# EAGLE library part MC33171DG (library on-semiconductor-01)
Operational Amplifiers
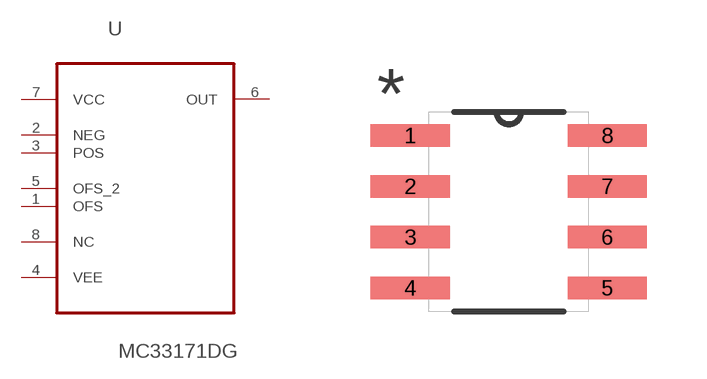
[diagram p354: symbol with the pads of SOIC127P600X175-8N; footprint SOIC127P600X175-8N]

Designator prefix U

## MC33171DG (MPN: MC33171DG; OC_FARNELL: 1104707; OC_NEWARK: 42K0590; PACKAGE: SO-8; SUPPLIER: ON SEMICONDUCTOR)  [SOIC127P600X175-8N]
1  OFS  pas
2  NEG  in
3  POS  in
4  VEE  pwr
5  OFS_2  pas
6  OUT  out
7  VCC  pwr
8  NC  nc

## Footprint SOIC127P600X175-8N (pad centres in mm)
smd 1.981 x 0.559: 1 -2.464,1.905; 2 -2.464,0.635; 3 -2.464,-0.635; 4 -2.464,-1.905; 5 2.464,-1.905; 6 2.464,-0.635; 7 2.464,0.635; 8 2.464,1.905